# EAGLE library part M20-7820646 (library SamacSys_Parts)
HARWIN M20 Series 2.54mm Pitch 6 Way 1 Row Vertical PCB Socket, Through Hole, Solder Termination Source: Datasheet <https://cdn.harwin.com/pdfs/M20-782.pdf>
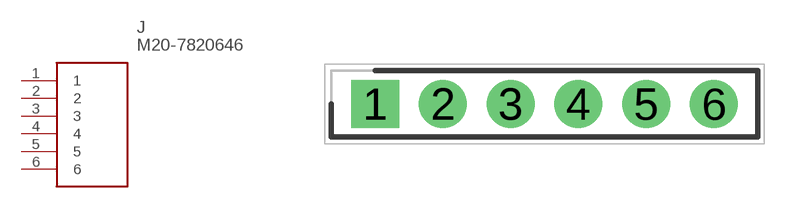
[diagram p250: symbol with the pads of HDRV6W70P0X254_1X6_1564X250X86; footprint HDRV6W70P0X254_1X6_1564X250X86]

Designator prefix J

## M20-7820646 (ARROW_PART_NUMBER: M20-7820646; DESCRIPTION: HARWIN M20 Series 2.54mm Pitch 6 Way 1 Row Vertical PCB Socket, Through Hole, Solder Termination; HEIGHT: 8.65mm; MANUFACTURER_NAME: Harwin; MANUFACTURER_PART_NUMBER: M20-7820646; MOUSER_PART_NUMBER: 855-M20-7820646; MOUSER_PRICE-STOCK: https://www.mouser.co.uk/ProductDetail/Harwin/M20-7820646?qs=WS5Jv%252B%252Bx1qWZs4rbTjPGWw%3D%3D)  [HDRV6W70P0X254_1X6_1564X250X86]
1  1
2  2
3  3
4  4
5  5
6  6

## Footprint HDRV6W70P0X254_1X6_1564X250X86 (pad centres in mm)
6pin header1
drill 1.2 pad 1.8 square: 1 0,0
drill 1.2 pad 1.8: 2 2.54,0; 3 5.08,0; 4 7.62,0; 5 10.16,0; 6 12.7,0